# Altium schematic symbol library passive.SchLib: 106 symbols
Pins are listed as number, name and electrical type; pins without a type are passive.

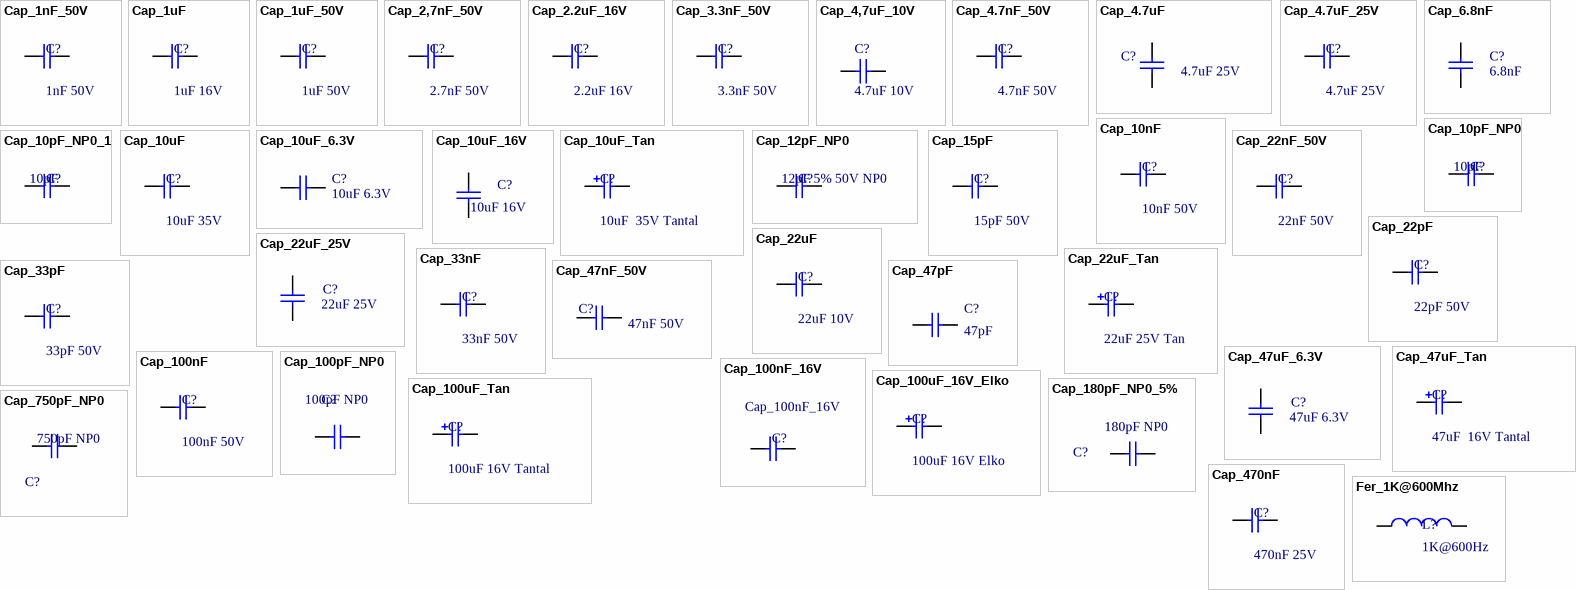
[diagram p0: symbols Cap_1nF_50V to Fer_1K@600Mhz]

## Cap_1nF_50V
designator C?, comment 1nF 50V
1nF 0603 10% 50V X7R CC0603KRX7R9BB102 (YAG) [82-02-39]; Order ID:: 82-02-39; Distributor:: Lomex; Price:: 0,42; Value: 1nF
footprint 0603_CAP
simulation model Capacitor
pins: 1, 2
2 alternate drawings of the same symbol

## Cap_1uF
designator C?, comment 1uF 16V
1uF 0603 10% 16V X7R CC0603KRX7R7BB105 (YAG) [82-06-80]; Order ID:: 82-06-80; Distributor:: Lomex; Price:: 1.57; Value: 1uF
footprint 0603_CAP
simulation model Capacitor
pins: 1, 2
2 alternate drawings of the same symbol

## Cap_1uF_50V
designator C?, comment 1uF 50V
1uF 1206 -20+80% 50V Y5V CL31F105ZBFNNNE (SAM) [82-08-43]; Order ID:: 82-08-43; Distributor:: Lomex; Price:: 4,09; Value: 1uF
footprint 1206_CAP
simulation model Capacitor
pins: 1, 2
2 alternate drawings of the same symbol

## Cap_2,7nF_50V
designator C?, comment 2.7nF 50V
2.7nF 0603 10% 50V X7R CC0603KRX7R9BB272 (YAG) ³ [82-04-63]; Value: 2,7nF; Order ID:: 82-04-63; Distributor:: Lomex; Price:: 0,46
footprint 0603_CAP
simulation model Capacitor
pins: 1, 2
2 alternate drawings of the same symbol

## Cap_2.2uF_16V
designator C?, comment 2.2uF 16V
2.2uF 0603 10% 16V X5R CL10A225KO8NNNC (SAM) [82-08-56]; Order ID:: 82-08-56; Distributor:: Lomex; Price:: 2.75; Value: 2.2uF
simulation model Capacitor
footprint 0603_CAP
pins: 1, 2
2 alternate drawings of the same symbol

## Cap_3.3nF_50V
designator C?, comment 3.3nF 50V
3.3nF 0603 10% 50V X7R CC0603KRX7R9BB332 (YAG) [82-02-42]; Order ID:: 82-02-42; Distributor:: Lomex; Price:: 0.66; Value: 3.3nF
footprint 0603_CAP
simulation model Capacitor
pins: 1, 2
2 alternate drawings of the same symbol

## Cap_4,7uF_10V
designator C?, comment 4.7uF 10V
4.7uF 0603 10% 10V X5R CC0603KRX5R6BB475 (YAG) [82-07-15]; Order ID:: 82-07-15; Distributor:: Lomex; Price:: 6.54; Value: 4.7uF
footprint 0603_CAP
simulation model Capacitor
pins: 1, 2
2 alternate drawings of the same symbol

## Cap_4.7nF_50V
designator C?, comment 4.7nF 50V
4.7nF 0603 10% 50V X7R CC0603KRX7R9BB472 (YAG) [82-02-43]; Order ID:: 82-02-43; Distributor:: Lomex; Price:: 0.75; Value: 4.7nF
footprint 0603_CAP
simulation model Capacitor
pins: 1, 2
2 alternate drawings of the same symbol

## Cap_4.7uF
designator C?, comment 4.7uF 25V
4.7uF 0805 10% 25V X5R CL21A475KAQNNNG (SAM) [82-08-53]; Distributor: Lomex; Order ID: 82-08-53; Price: 4.55; Value: 4.7uF 25V
footprint 1206
footprint 0805_CAP
footprint 0603
pins: 1, 2
2 alternate drawings of the same symbol

## Cap_4.7uF_25V
designator C?, comment 4.7uF 25V
4.7uF 1206 10% 25V X7R CC1206KKX7R8BB475 (YAG) [82-06-14]; Order ID:: 82-06-14; Distributor:: Lomex; Price:: 12.5; Value: 4.7uF
footprint 1206_CAP
simulation model Capacitor
pins: 1, 2
2 alternate drawings of the same symbol

## Cap_6.8nF
designator C?, comment 6.8nF
6.8nF 0603 10% 50V X7R CC0603KRX7R9BB682 (YAG) [82-02-44]; Distributor: Lomex; Order ID: 82-02-44; Price: 0.8; Value: 6.8nF
footprint 1206
footprint 0805
footprint 0603_CAP
pins: 1, 2
2 alternate drawings of the same symbol

## Cap_10nF
designator C?, comment 10nF 50V
10nF 0603 10% 50V X7R CC0603KRX7R9BB103 (YAG) [82-02-45]; Order ID:: 82-02-45; Distributor:: Lomex; Price:: 0.42; Value: 10nF
footprint 0603_CAP
simulation model Capacitor
pins: 1, 2
2 alternate drawings of the same symbol

## Cap_10pF_NP0
designator C?, comment 10pF
AVX - 04025A100JAT2A - CAP MLCC, 10PF, 50V, C0G/NP0, 5%, 0402; Order ID: 1740571; Distributor: Farnell; Price: 11; Value: 10pF
footprint RAD-0.3 (Capacitor; 2 Leads)
footprint VP32-3.2 (Capacitor, Ceramic, Thru-Hole, Dipped Radial; Body 5.1 x 3.2 mm (WxT) Pin Spacing 2.54 mm (typ))
footprint VP45-3.2 (Capacitor, Ceramic, Thru-Hole, Dipped Radial; Body 7.8 x 3.2 mm (WxT) Pin Spacing 5.08 mm (typ))
simulation model Capacitor
signal-integrity model Cap
footprint 0805
footprint 0402_CAP (Capacitor)
pins: 1, 2

## Cap_10pF_NP0_1
designator C?, comment 10pF
AVX - 04025A100JAT2A - CAP MLCC, 10PF, 50V, C0G/NP0, 5%, 0402; Order ID: 1740571; Distributor: Farnell; Price: 11; Value: 10pF
footprint RAD-0.3 (Capacitor; 2 Leads)
footprint VP32-3.2 (Capacitor, Ceramic, Thru-Hole, Dipped Radial; Body 5.1 x 3.2 mm (WxT) Pin Spacing 2.54 mm (typ))
footprint VP45-3.2 (Capacitor, Ceramic, Thru-Hole, Dipped Radial; Body 7.8 x 3.2 mm (WxT) Pin Spacing 5.08 mm (typ))
simulation model Capacitor
signal-integrity model Cap
footprint 0805
footprint 0402_CAP (Capacitor)
pins: 1, 2

## Cap_10uF
designator C?, comment 10uF 35V
CAP CER 10UF 35V Y5V 1206; Order ID:: 587-1352-2-ND; Distributor:: Digikey; Price:: 11.385; Value: 10uF
footprint 1206_CAP
simulation model Capacitor
pins: 1, 2
2 alternate drawings of the same symbol

## Cap_10uF_6.3V
designator C?, comment 10uF 6.3V
10uF 0805 10% 6.3V X5R CC0805KKX5R5BB106 (YAG) [82-05-94]; Distributor: Lomex; Order ID: 82-05-94; Price: 4.5; Value: 10uF
footprint 0805_CAP
simulation model Capacitor
pins: 1, 2
2 alternate drawings of the same symbol

## Cap_10uF_16V
designator C?  value 10uF 16V  (hidden comment: Cap_10uF_16V)
10uF 1206 10% 16V X7R CL31B106KOHNNNE (SAM) [82-08-01]; Distributor: Lomex; Order ID: 82-08-01; Price: 7
simulation model CAP (Capacitor)
signal-integrity model Cap
footprint 1206_CAP
pins: 1, 2

## Cap_10uF_Tan
designator C?, comment 10uF  35V Tantal
10uF ½D½ 35V 10% 293D106X9035D2TE3 (VIS) 7343-31 [92-00-49]; Distributor: Lomex; Order ID: 92-00-49; Price: 61.90; Value: 10uF
footprint 7343-31_CAP
simulation model Capacitor
pins: 1, 2
2 alternate drawings of the same symbol

## Cap_12pF_NP0
designator C?, comment 12pF 5% 50V NP0
12pF 0603 5% 50V NP0 CL10C120JB8NNNC (SAM) [82-08-41]; Distributor: Lomex; Order ID: 82-08-41; Price: 0.67; Value: 12pF
footprint RAD-0.3 (Capacitor; 2 Leads)
footprint VP32-3.2 (Capacitor, Ceramic, Thru-Hole, Dipped Radial; Body 5.1 x 3.2 mm (WxT) Pin Spacing 2.54 mm (typ))
footprint VP45-3.2 (Capacitor, Ceramic, Thru-Hole, Dipped Radial; Body 7.8 x 3.2 mm (WxT) Pin Spacing 5.08 mm (typ))
simulation model Capacitor
signal-integrity model Cap
footprint 0805
footprint 0603_CAP
pins: 1, 2

## Cap_15pF
designator C?, comment 15pF 50V
15pF 0603 5% 50V NP0 CC0603JRNPO9BN150 (YAG) [82-02-16]; Order ID:: 82-02-16; Distributor:: Lomex; Price:: 1.05; Value: 15pF
footprint 0603_CAP
simulation model Capacitor
pins: 1, 2
2 alternate drawings of the same symbol

## Cap_22nF_50V
designator C?, comment 22nF 50V
22nF 0603 10% 50V X7R CC0603KRX7R9BB223 (YAG) [82-02-47]; Order ID:: 82-02-47; Distributor:: Lomex; Price:: 0,93; Value: 22nF
footprint 0603_CAP
simulation model Capacitor
pins: 1, 2
2 alternate drawings of the same symbol

## Cap_22pF
designator C?, comment 22pF 50V
22pF 0603 5% 50V NP0 CC0603JRNPO9BN220 (YAG) [82-02-18]; Order ID:: 82-02-18; Distributor:: Lomex; Price:: 0.60; Value: 22pF
footprint 0603_CAP
simulation model Capacitor
pins: 1, 2
2 alternate drawings of the same symbol

## Cap_22uF
designator C?, comment 22uF 10V
22uF 1206 10% 10V X5R CL31A226KPHNNNE (SAM) [82-07-85]; Order ID:: 82-07-85; Distributor:: Lomex; Price:: 14.35; Value: 22uF
footprint 1206_CAP
simulation model Capacitor
pins: 1, 2
2 alternate drawings of the same symbol

## Cap_22uF_25V
designator C?, comment 22uF 25V
MURATA - GRM31CR61E226KE15L - CAP, CERAMIC, 22UF, 25V, X5R, 1206; Order ID: 1797010; Distributor: Farnell; Price: 147; Value: 22uF 25V
footprint 1206_CAP
pins: 1, 2
2 alternate drawings of the same symbol

## Cap_22uF_Tan
designator C?, comment 22uF 25V Tan
22uF ½D½ 25V 10% 293D226X9025D2TE3 (VIS) 7343-31 [92-01-43]; Distributor: Lomex; Order ID: 92-01-43; Price: 64; Value: 22uF
footprint 7343-31_CAP
simulation model Capacitor
pins: 1, 2
2 alternate drawings of the same symbol

## Cap_33nF
designator C?, comment 33nF 50V
33nF 0603 10% 50V X7R CC0603KRX7R9BB333 (YAG) [82-05-61]; Order ID:: 82-05-61; Distributor:: Lomex; Price:: 0.77; Value: 33nF
footprint 0603_CAP
simulation model Capacitor
pins: 1, 2
2 alternate drawings of the same symbol

## Cap_33pF
designator C?, comment 33pF 50V
33pF 0603 5% 50V NP0 CC0603JRNP09BN330 (YAG) [82-02-20]; Order ID:: 82-02-20; Distributor:: Lomex; Price:: 0.82; Value: 33pF
footprint 0603_CAP
simulation model Capacitor
pins: 1, 2
2 alternate drawings of the same symbol

## Cap_47nF_50V
designator C?, comment 47nF 50V
47nF 0603 10% 50V X7R CC0603KRX7R9BB473 (YAG) [82-03-87]; Distributor: Lomex; Order ID: 82-03-87; Price: 0.85; Value: 47nF
footprint 1206
footprint 0805
footprint 0603_CAP
simulation model Capacitor
pins: 1, 2
2 alternate drawings of the same symbol

## Cap_47pF
designator C?, comment 47pF
47pF 0603 5% 50V NP0 CC0603JRNPO9BN470 (YAG) [82-02-22]; Distributor: Lomex; Order ID: 82-02-22; Price: 0.6; Value: 47pF
footprint 1206
footprint 0805
footprint 0603_CAP
simulation model Capacitor
pins: 1, 2
2 alternate drawings of the same symbol

## Cap_47uF_6.3V
designator C?, comment 47uF 6.3V
47uF 1206 20% 6.3V X5R CL31A476MQHNNE (SAM) [82-08-04]; Distributor: Lomex; Order ID: 82-08-04; Price: 31; Value: 47uF
footprint 1206_CAP
pins: 1, 2
2 alternate drawings of the same symbol

## Cap_47uF_Tan
designator C?, comment 47uF  16V Tantal
47uF ½D½ 16V 10% 293D476X9016D2TE3 (VIS) 7343-31 [92-00-56]; Distributor: Lomex; Order ID: 92-00-56; Price: 50,90; Value: 47uF
footprint 7343-31_CAP
simulation model Capacitor
pins: 1, 2
2 alternate drawings of the same symbol

## Cap_100nF
designator C?, comment 100nF 50V
100nF 0603 10% 50V X7R CC0603KRX7R9BB104 (YAG) [82-06-23]; Order ID:: 82-06-23; Distributor:: Lomex; Price:: 0.37; Value: 100nF
footprint 0603_CAP
simulation model Capacitor
pins: 1, 2
2 alternate drawings of the same symbol

## Cap_100nF_16V
designator C?
100nF 0603 10% 16V X7R CC0603KPX7R7BB104 (YAG) [82-04-85]; Distributor: Lomex; Order ID: 82-04-85; Price: 0.37; Value: 100nF
footprint RAD-0.3 (Capacitor; 2 Leads)
footprint VP32-3.2 (Capacitor, Ceramic, Thru-Hole, Dipped Radial; Body 5.1 x 3.2 mm (WxT) Pin Spacing 2.54 mm (typ))
footprint VP45-3.2 (Capacitor, Ceramic, Thru-Hole, Dipped Radial; Body 7.8 x 3.2 mm (WxT) Pin Spacing 5.08 mm (typ))
simulation model Capacitor
signal-integrity model Cap
footprint 0805
footprint 0603_CAP
pins: 1, 2

## Cap_100pF_NP0
designator C?, comment 100pF NP0
100pF 0603 5% 50V NP0 CC0603JRNPO9BN101 (YAG) [82-02-26]; Distributor: Lomex; Order ID: 82-02-26; Price: 0.52; Value: 100pF
footprint RAD-0.3 (Capacitor; 2 Leads)
footprint VP32-3.2 (Capacitor, Ceramic, Thru-Hole, Dipped Radial; Body 5.1 x 3.2 mm (WxT) Pin Spacing 2.54 mm (typ))
footprint VP45-3.2 (Capacitor, Ceramic, Thru-Hole, Dipped Radial; Body 7.8 x 3.2 mm (WxT) Pin Spacing 5.08 mm (typ))
simulation model Capacitor
signal-integrity model Cap
footprint 0805
footprint 0603_CAP
pins: 1, 2

## Cap_100uF_16V_Elko
designator C?, comment 100uF 16V Elko
100uF 16V 6x5mm 20% 105° VSV107M016S0ANE010 (LUX) SMD [91-00-20]; Distributor: Lomex; Order ID: 91-00-20; Price: 11.36; Value: 100uF
footprint ELKO SMD_E (8x6.3)
simulation model Capacitor
pins: 1, 2
2 alternate drawings of the same symbol

## Cap_100uF_Tan
designator C?, comment 100uF 16V Tantal
100uF ½D½ 16V 10% TAJD107K016SNJ (AVX) 7343 [92-01-42]; Distributor: Lomex; Order ID: 92-01-42; Price: 60; Value: 100uF
footprint 7343-31_CAP
simulation model Capacitor
pins: 1, 2
2 alternate drawings of the same symbol

## Cap_180pF_NP0_5%
designator C?, comment 180pF NP0
180pF 0603 5% 50V NP0 CC0603JRNP09BN181 (YAG) [82-02-29]; Distributor: Lomex; Order ID: 82-02-29; Price: 1.05; Value: 180pF
footprint RAD-0.3 (Capacitor; 2 Leads)
footprint VP32-3.2 (Capacitor, Ceramic, Thru-Hole, Dipped Radial; Body 5.1 x 3.2 mm (WxT) Pin Spacing 2.54 mm (typ))
footprint VP45-3.2 (Capacitor, Ceramic, Thru-Hole, Dipped Radial; Body 7.8 x 3.2 mm (WxT) Pin Spacing 5.08 mm (typ))
simulation model Capacitor
signal-integrity model Cap
footprint 0805
footprint 0603_CAP
pins: 1, 2

## Cap_470nF
designator C?, comment 470nF 25V
470nF 0603 10% 25V X5R 0603X474K250CT (WAL) [82-06-82]; Order ID:: 82-06_82; Distributor:: Lomex; Price:: 1.66; Value: 470nF
footprint 0603_CAP
simulation model Capacitor
pins: 1, 2
2 alternate drawings of the same symbol

## Cap_750pF_NP0
designator C?, comment 750pF NP0
750pF 0603 5% 50V C0G; Order ID: 490-1448-2-ND; Distributor: Digikey; Price: 3.80; Value: 750pF
footprint RAD-0.3 (Capacitor; 2 Leads)
footprint VP32-3.2 (Capacitor, Ceramic, Thru-Hole, Dipped Radial; Body 5.1 x 3.2 mm (WxT) Pin Spacing 2.54 mm (typ))
footprint VP45-3.2 (Capacitor, Ceramic, Thru-Hole, Dipped Radial; Body 7.8 x 3.2 mm (WxT) Pin Spacing 5.08 mm (typ))
simulation model Capacitor
signal-integrity model Cap
footprint 0805
footprint 0603_CAP
pins: 1, 2

## Fer_1K@600Mhz
designator L?, comment 1K@600Hz
WURTH ELEKTRONIK - 742863147 - FERRITE BEAD, 0.32OHM, 500MA, 0603; Order ID: 1748576; Value: 1K; Distributor: Farnell; Price: 100
footprint 0603_Ferrit_Bead (Ferrit Bead)
pins: 1, 2
2 alternate drawings of the same symbol

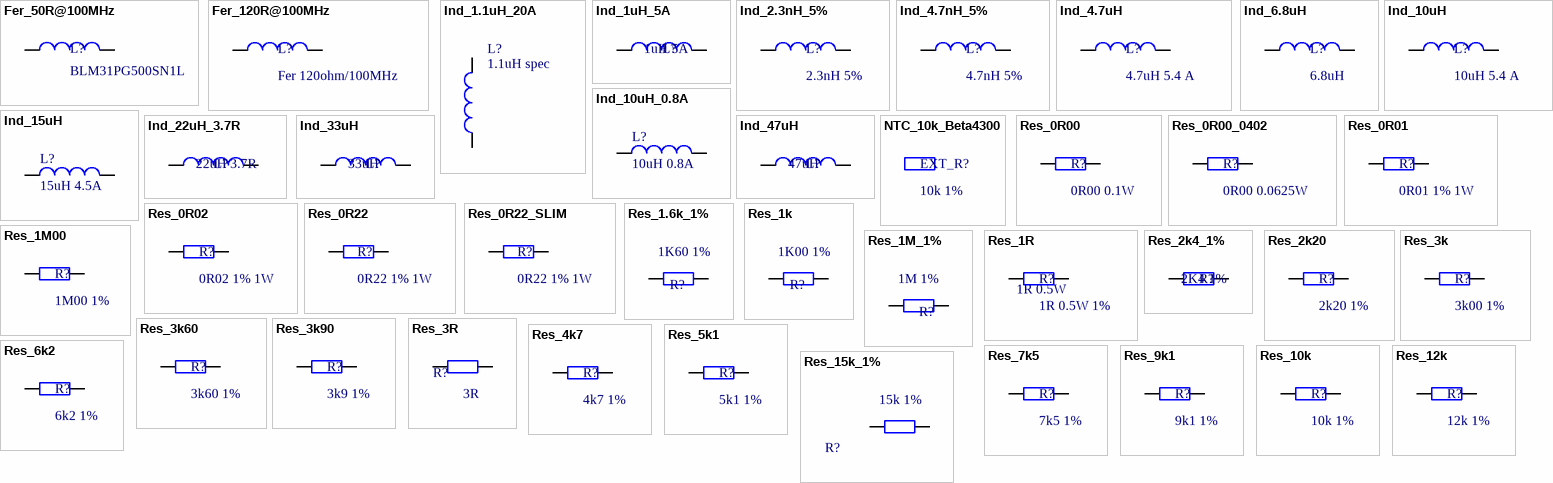
[diagram p1: symbols Fer_50R@100MHz to Res_15k_1%]

## Fer_50R@100MHz
designator L?, comment BLM31PG500SN1L
FERRITE CHIP 50 OHM 3500MA 1206; Order ID: 490-1055-1-ND; Distributor: Digikey; Price: 40; Value: BLM31PG500SN1L
footprint 1206_IND
pins: 1, 2
2 alternate drawings of the same symbol

## Fer_120R@100MHz
designator L?, comment Fer 120ohm/100MHz
120ohm/100MHz 0805 25% 0.04R CB05YTYH121 (VIK) HIGH CURRENT MULTILAYER CHIP FERRITE BEAD Idc=3A [93-03-10]; Distributor: Lomex; Order ID: 93-03-10; Price: 1.26; Value: Fer 120ohm/100MHz
footprint 0805_FER (Ferrit 0805 case.)
pins: 1, 2
2 alternate drawings of the same symbol

## Ind_1.1uH_20A
designator L?, comment 1.1uH spec
INDUCTOR POWER 1.1UH 20A SMD; Order ID: 495-1860-1-ND; Distributor: Digikey; Price: 650; Value: 1.1uH
footprint EPCOS_IND_B82559A0112A013
pins: 1, 2
2 alternate drawings of the same symbol

## Ind_1uH_5A
designator L?, comment 1uH 5A
1uHy 5.8x4.9mm 20% 0.01R PCD0504MT1R0 (VIK) Idc=5A POW. [93-02-76]; Distributor: Lomex; Order ID: 93-02-76; Price: 26; Value: 1uH
simulation model INDUCTOR (Inductor)
signal-integrity model Inductor
footprint PCD0504 (Power inductor.)
pins: 1, 2

## Ind_2.3nH_5%
designator L?, comment 2.3nH 5%
0.023uHy 0402 5% 0.3R 0402CS-23NXJLW (CCR) Idc=400mA SRF>2,72GHz ³ [93-02-30]; Distributor: Lomex; Order ID: 93-02-30; Price: 3.4; Value: 2.3nH
footprint 0402_Res (Resistor)
simulation model Inductor
pins: 1, 2
2 alternate drawings of the same symbol

## Ind_4.7nH_5%
designator L?, comment 4.7nH 5%
0603CS-4N7XGLW Chip Inductors 4.7nH at 2 Chip Inductors 4.7nH at 250 MHz +/-5%; Order ID: COIL107; Distributor: Chipcad; Price: 16; Value: 4.7nH
footprint 0603_Res (Resistor)
simulation model Inductor
pins: 1, 2
2 alternate drawings of the same symbol

## Ind_4.7uH
designator L?, comment 4.7uH 5.4 A
4.7uHy 13x9.4mm 20% 0.018R PD3316MT4R7 (VIK) Idc=5.4A POW. [93-02-89]; Distributor: Lomex; Order ID: 93-02-89; Price: 39,78; Value: 4.7uH
footprint PD3316
simulation model Inductor
pins: 1, 2
2 alternate drawings of the same symbol

## Ind_6.8uH
designator L?, comment 6.8uH
BOURNS - SRN3015-6R8M - INDUCTOR, POWER, 6.8UH, SEMI SHIELDED; Order ID: 2061633; Distributor: Farnell; Price: 48.25; Value: 6.8uH
simulation model Inductor
signal-integrity model Inductor
footprint SRN3015 (Inductor case. 3x3x1.5mm)
pins: 1, 2

## Ind_10uH
designator L?, comment 10uH 5.4 A
10uHy 12.7x12.7 20% 0.021R SS1208100MFB (ABC) Idc=5.4A POW. SHIELDED (SRR1208) [93-00-43]; Distributor: Lomex; Order ID: 93-00-43; Price: 87; Value: 10uH
footprint SRR1208 (Inductor case. 12.7x12.7x8mm)
footprint IND8.7X12
footprint EPCOS_IND
footprint 1210
simulation model Inductor
pins: 1, 2
2 alternate drawings of the same symbol

## Ind_10uH_0.8A
designator L?, comment 10uH 0.8A
10uHy 3x2.5mm 20% 0.25R SDR0302-100ML (BOU) RoHS Irms=0.8A POW.; Distributor: Lomex; Order ID: 93-02-04; Price: 56.40; Value: 10uH
simulation model INDUCTOR (Inductor)
signal-integrity model Inductor
footprint BOURNS 0302 (Bourns 0302 inductor footprint)
pins: 1, 2

## Ind_15uH
designator L?, comment 15uH 4.5A
15uHy 12.7x12.7 20% 0.036R SS1208150MFB (ABC) Irms=4.5A POW. SHIELDED (SRR1208) [93-01-15]; Distributor: Lomex; Order ID: 93-01-15; Price: 86; Value: 15uH
footprint SRR1208 (Inductor case. 12.7x12.7x8mm)
footprint IND8.7X12
footprint EPCOS_IND
footprint 1210
simulation model Inductor
pins: 1, 2
2 alternate drawings of the same symbol

## Ind_22uH_3.7R
designator L?, comment 22uH 3.7R
22uHy 1210 5% 3.7R LFC32TTE220J (KOA) Idc=110mA SRF>25MHz [93-00-08]; Distributor: Lomex; Order ID: 93-00-08; Price: 19.80; Value: 22uH
footprint 0402-A (Chip Inductor; Body 1 x 0.5 mm (LxW typ))
footprint L0603 (Chip Inductor; Body 1.6 x 0.8 mm (LxW typ))
footprint 2012_Chip (2012 Chip; Chip Inductor; Body 2.0 x 1.2 mm (LxW typ))
footprint 2029 (Chip Inductor; Body 2 x 1.2 mm (LxW typ))
footprint 3261 (3216 Chip; Chip Inductor; Body 3.2 x 1.6 mm (LxW typ))
footprint 4564_Chip (4564 Chip; Chip Inductor; Body 4.5 x 6.4 mm (LxW typ))
simulation model Inductor
signal-integrity model Inductor
footprint 1210_IND (1210 inductor case.)
pins: 1, 2

## Ind_33uH
designator L?, comment 33uH
33uHy 5.8x4.9mm 10% 0.23R PCD0504KT330 (VIK) Idc=0.88A POW. [93-02-81]; Distributor: Lomex; Order ID: 93-02-81; Price: 19.57; Value: 33uH
simulation model INDUCTOR (Inductor)
signal-integrity model Inductor
footprint PCD0504 (Power inductor.)
pins: 1, 2

## Ind_47uH
designator L?, comment 47uH
47uHy 5.8x4.9mm 10% 0.37R PCD0504KT470 (VIK) Idc=0.72A POW. [93-02-82]; Distributor: Lomex; Order ID: 93-02-82; Price: 16.23; Value: 47uH
simulation model INDUCTOR (Inductor)
signal-integrity model Inductor
footprint PCD0504 (Power inductor.)
pins: 1, 2

## NTC_10k_Beta4300
designator EXT_R?, comment 10k 1%
NTC 10K 5% B57164K0103J (EPC) RAD D=5.5mm RM5.0 [60-00-88]; Distributor: Lomex; Order ID: 60-00-88; Price: 49.6; Value: 10k
simulation model Resistor
2 alternate drawings of the same symbol

## Res_0R00
designator R?, comment 0R00 0.1W
0R00 0603 CR-03JL7----0R 0.1W (VIK) 1A 5 [81-10-01]; Distributor: Lomex; Order ID: 81-10-01; Price: 0.18; Value: 0R00
footprint 0603_Res (Resistor)
simulation model Resistor
pins: 1, 2
2 alternate drawings of the same symbol

## Res_0R00_0402
designator R?, comment 0R00 0.0625W
0R00 0402 RC0402JR-070RL 0.0625W (YAG) [81-20-69]; Distributor: Lomex; Order ID: 81-20-69; Price: 0.23; Value: 0R00
footprint 0402_Res (Resistor)
simulation model Resistor
pins: 1, 2
2 alternate drawings of the same symbol

## Res_0R01
designator R?, comment 0R01 1% 1W
PANASONIC - ERJ8CWFR010V - RESISTOR, THICK FILM, 0.01OHM; Order ID: 2145283; Distributor: Farnell; Price: 58,05; Value: 0R01
footprint 3216[1206]_RES (Chip Resistor; Body 3.2 x 1.6 mm (LxW typ))
simulation model Resistor
pins: 1, 2
2 alternate drawings of the same symbol

## Res_0R02
designator R?, comment 0R02 1% 1W
PANASONIC - ERJ8CWFR020V - RESISTOR, THICK FILM, 0.02OHM; Order ID: 2145291; Distributor: Farnell; Price: 58,05; Value: 0R02
footprint 3216[1206]_RES (Chip Resistor; Body 3.2 x 1.6 mm (LxW typ))
simulation model Resistor
pins: 1, 2
2 alternate drawings of the same symbol

## Res_0R22
designator R?, comment 0R22 1% 1W
0R22 2512 1% RS-12FL4--0R22 1W (VIK) [80-05-83]; Distributor: Lomex; Order ID: 80-05-83; Price: 10; Value: 0R22
footprint 6332[2512]_RES (Chip Resistor; Body 6.3 x 3.2 mm (LxW typ))
simulation model Resistor
pins: 1, 2
2 alternate drawings of the same symbol

## Res_0R22_SLIM
designator R?, comment 0R22 1% 1W
0R22 2512 1% RS-12FL4--0R22 1W (VIK) [80-05-83]; Distributor: Lomex; Order ID: 80-05-83; Price: 10; Value: 0R22
footprint 6332[2512]_RES_SLIM (Chip Resistor; Body 6.3 x 3.2 mm (LxW typ))
simulation model Resistor
pins: 1, 2
2 alternate drawings of the same symbol

## Res_1.6k_1%
designator R?, comment 1K60 1%
1K60 0603 1% CR-03FL7---1K6 0.1W (VIK) [80-14-46]; Order ID: 80-14-46; Distributor: Lomex; Price: 0.24; Value: 1K60
footprint AXIAL-0.4 (Resistor; 2 Leads)
simulation model Resistor
signal-integrity model Res
footprint 0603_Res (Resistor)
pins: 1, 2

## Res_1k
designator R?, comment 1K00 1%
1K00 0603 1% RC0603FR-13 1K00 0.1W (YAG) [80-15-07]; Order ID: 80-15-07; Distributor: Lomex; Price: 0.22; Value: 1K00
footprint AXIAL-0.4 (Resistor; 2 Leads)
footprint 0603_Res (Resistor)
simulation model Resistor
pins: 1, 2

## Res_1M00
designator R?, comment 1M00 1%
1M00 0603 1% CR-03FL7----1M 0.1W (VIK) [80-11-86]; Distributor: Lomex; Order ID: 80-11-86; Price: 0.24; Value: 1M00
footprint 0603_Res (Resistor)
simulation model Resistor
pins: 1, 2
2 alternate drawings of the same symbol

## Res_1M_1%
designator R?, comment 1M 1%
1M00 0603 1% CR-03FL7----1M 0.1W (VIK) [80-11-86]; Order ID: 80-11-86; Distributor: Lomex; Price: 0.24; Value: 1M 1%
footprint 0603_Res (Resistor)
simulation model Resistor
pins: 1, 2

## Res_1R
designator R?, comment 1R 0.5W 1%  value 1R 0.5W
PANASONIC  ERJ14BQF1R0U  RESISTOR, 1210, 0.5W, 1%, 1R; Order ID: 1717932; Distributor: Farnell; Price: 115
footprint 1210_IND (1210 inductor case.)
pins: 1, 2
2 alternate drawings of the same symbol

## Res_2k4_1%
designator R?, comment 2K4 1%
2K40 0603 1% RC0603FR-07 2K40 0.1W (YAG) [80-04-43]; Order ID: 80-04-43; Distributor: Lomex; Price: 0.33; Value: 2K4
footprint AXIAL-0.4 (Resistor; 2 Leads)
simulation model Resistor
signal-integrity model Res
footprint 0603_Res (Resistor)
pins: 1, 2

## Res_2k20
designator R?, comment 2k20 1%
2K20 0603 1% CR-03FL7---2K2 0.1W (VIK) [80-11-80]; Distributor: Lomex; Order ID: 80-11-80; Price: 0.24; Value: 2k20
footprint 0603_Res (Resistor)
simulation model Resistor
pins: 1, 2
2 alternate drawings of the same symbol

## Res_3k
designator R?, comment 3k00 1%
3K00 0603 1% CR-03FL7----3K 0.1W (VIK) [80-11-77]; Distributor: Lomex; Order ID: 80-11-77; Price: 0.24; Value: 3k00
footprint 0603_Res (Resistor)
simulation model Resistor
pins: 1, 2
2 alternate drawings of the same symbol

## Res_3k60
designator R?, comment 3k60 1%
3K60 0603 1% CR-03FL7---3K6 0.1W (VIK) [80-14-47]; Distributor: Lomex; Order ID: 80-14-47; Price: 0.24; Value: 3k60
footprint 0603_Res (Resistor)
simulation model Resistor
pins: 1, 2
2 alternate drawings of the same symbol

## Res_3k90
designator R?, comment 3k9 1%
3K90 0603 1% CR-03FL7---3K9 0.1W (VIK) [80-11-66]; Distributor: Lomex; Order ID: 80-11-66; Price: 0.24; Value: 3k9
footprint 0603_Res (Resistor)
simulation model Resistor
pins: 1, 2
2 alternate drawings of the same symbol

## Res_3R
designator R?, comment 3R
3R00 0603 5% CR-03JL7----3R 0.1W (VIK) [81-20-36]; Distributor: Lomex; ORDER ID: 81-20-36; Price: 0.18; Value: 3R
footprint 1206
footprint 0805
footprint 0603_Res (Resistor)
footprint 2512
pins: 1, 2
2 alternate drawings of the same symbol

## Res_4k7
designator R?, comment 4k7 1%
4K70 0603 1% CR-03FL7---4K7 0.1W (VIK) [80-11-85]; Distributor: Lomex; Order ID: 80-11-85; Price: 0.24; Value: 4k7
footprint 0603_Res (Resistor)
simulation model Resistor
pins: 1, 2
2 alternate drawings of the same symbol

## Res_5k1
designator R?, comment 5k1 1%
5K10 0603 1% CR-03FL7---5K1 0.1W (VIK) [80-11-67]; Distributor: Lomex; Order ID: 80-11-67; Price: 0.24; Value: 5k1
footprint 0603_Res (Resistor)
simulation model Resistor
pins: 1, 2
2 alternate drawings of the same symbol

## Res_6k2
designator R?, comment 6k2 1%
6K20 0603 1% CR-03FL7---6K2 0.1W (VIK) [80-13-52]; Distributor: Lomex; Order ID: 80-13-52; Price: 0.24; Value: 6k2
footprint 0603_Res (Resistor)
simulation model Resistor
pins: 1, 2
2 alternate drawings of the same symbol

## Res_7k5
designator R?, comment 7k5 1%
7K50 0603 1% CR-03FL7---7K5 0.1W (VIK) [80-13-64]; Distributor: Lomex; Order ID: 80-13-64; Price: 0.24; Value: 7k5
footprint 0603_Res (Resistor)
simulation model Resistor
pins: 1, 2
2 alternate drawings of the same symbol

## Res_9k1
designator R?, comment 9k1 1%
9K10 0603 1% CR-03FL7---9K1 0.1W (VIK) [80-14-49]; Distributor: Lomex; Order ID: 80-14-49; Price: 0.24; Value: 9k1
footprint 0603_Res (Resistor)
simulation model Resistor
pins: 1, 2
2 alternate drawings of the same symbol

## Res_10k
designator R?, comment 10k 1%
10K0 0603 1% CR-03FL7---10K 0.1W (VIK) [80-11-68]; Distributor: Lomex; Order ID: 80-11-68; Price: 0.24; Value: 10k
footprint 0603_Res (Resistor)
simulation model Resistor
pins: 1, 2
2 alternate drawings of the same symbol

## Res_12k
designator R?, comment 12k 1%
12K0 0603 1% CR-03FL7---12K 0.1W (VIK) [80-11-69]; Distributor: Lomex; Order ID: 80-11-69; Price: 0.24; Value: 12k
footprint 0603_Res (Resistor)
simulation model Resistor
pins: 1, 2
2 alternate drawings of the same symbol

## Res_15k_1%
designator R?, comment 15k 1%
15K0 0603 1% CR-03FL7---15K 0.1W (VIK) [80-12-06]; Order ID: 80-12-06; Distributor: Lomex; Price: 0.24; Value: 15k
footprint AXIAL-0.4 (Resistor; 2 Leads)
simulation model Resistor
signal-integrity model Res
footprint 0603_Res (Resistor)
pins: 1, 2

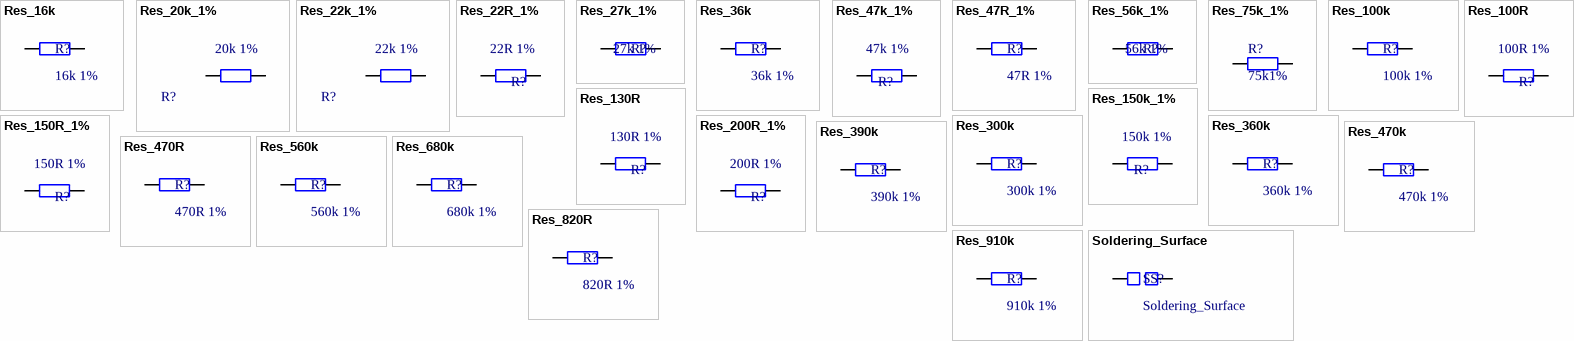
[diagram p2: symbols Res_16k to Soldering_Surface]

## Res_16k
designator R?, comment 16k 1%
16K0 0603 1% CR-03FL7---16K 0.1W (VIK) [80-14-51]; Distributor: Lomex; Order ID: 80-14-51; Price: 0.24; Value: 16k
footprint 0603_Res (Resistor)
simulation model Resistor
pins: 1, 2
2 alternate drawings of the same symbol

## Res_20k_1%
designator R?, comment 20k 1%
20K0 0603 1% CR-03FL7---20K 0.1W (VIK) [80-14-52]; Order ID: 80-14-52; Distributor: Lomex; Price: 0.24; Value: 20k
footprint AXIAL-0.4 (Resistor; 2 Leads)
simulation model Resistor
signal-integrity model Res
footprint 0603_Res (Resistor)
pins: 1, 2

## Res_22k_1%
designator R?, comment 22k 1%
22K0 0603 1% CR-03FL7---22K 0.1W (VIK) [80-11-71]; Order ID: 80-11-71; Distributor: Lomex; Price: 0.24; Value: 22k
footprint AXIAL-0.4 (Resistor; 2 Leads)
simulation model Resistor
signal-integrity model Res
footprint 0603_Res (Resistor)
pins: 1, 2

## Res_22R_1%
designator R?, comment 22R 1%
22R0 0603 1% CR-03FL7---22R 0.1W (VIK) [80-13-63]; Order ID: 80-13-63; Distributor: Lomex; Price: 0.24; Value: 22R
footprint 0603_Res (Resistor)
simulation model Resistor
pins: 1, 2

## Res_27k_1%
designator R?, comment 27k 1%
27K0 0603 1% CR-03FL7---27K 0.1W (VIK) [80-13-90]; Order ID: 80-13-90; Distributor: Lomex; Price: 0.24; Value: 27k
footprint AXIAL-0.4 (Resistor; 2 Leads)
simulation model Resistor
signal-integrity model Res
footprint 0603_Res (Resistor)
pins: 1, 2

## Res_36k
designator R?, comment 36k 1%
36K0 0603 1% CR-03FL7---36K 0.1W (VIK); Distributor: Lomex; Order ID: 80-13-29; Price: 0.24; Value: 36k
footprint 0603_Res (Resistor)
simulation model Resistor
pins: 1, 2
2 alternate drawings of the same symbol

## Res_47k_1%
designator R?, comment 47k 1%
47K0 0603 1% RC0603FR-13 47K0 0.1W (YAG) [80-15-18]; Order ID: 80-15-18; Distributor: Lomex; Price: 0.18; Value: 47k
footprint AXIAL-0.4 (Resistor; 2 Leads)
simulation model Resistor
signal-integrity model Res
footprint 0603_Res (Resistor)
pins: 1, 2

## Res_47R_1%
designator R?, comment 47R 1%
47R0 0603 1% CR-03FL7---47R 0.1W (VIK) [80-11-49]; Distributor: Lomex; Order ID: 80-11-49; Price: 0.24; Value: 47R
footprint 0603_Res (Resistor)
simulation model Resistor
pins: 1, 2
2 alternate drawings of the same symbol

## Res_56k_1%
designator R?, comment 56k 1%
56K0 0603 1% CR-03FL7---56K 0.1W (VIK) [80-14-55]; Order ID: 80-14-55; Distributor: Lomex; Price: 0.24; Value: 56k
footprint AXIAL-0.4 (Resistor; 2 Leads)
simulation model Resistor
signal-integrity model Res
footprint 0603_Res (Resistor)
pins: 1, 2

## Res_75k_1%
designator R?, comment 75k1%
75K0 0603 1% CR-03FL7---75K 0.1W (VIK) [80-13-02]; Distributor: Lomex; Order ID: 80-13-02; Price: 0.24; Value: 75k 1%
footprint 0603_Res (Resistor)
simulation model Resistor
pins: 1, 2
2 alternate drawings of the same symbol

## Res_100k
designator R?, comment 100k 1%
100K 0603 1% CR-03FL7--100K 0.1W (VIK) [80-11-40]; Distributor: Lomex; Order ID: 80-11-40; Price: 0.24; Value: 100k
footprint 0603_Res (Resistor)
simulation model Resistor
pins: 1, 2
2 alternate drawings of the same symbol

## Res_100R
designator R?, comment 100R 1%
100R 0603 1% CR-03FL7--100R 0.1W (VIK) [80-11-53]; Order ID: 80-11-53; Distributor: Lomex; Price: 0.24; Value: 100R
footprint 0603_Res (Resistor)
simulation model Resistor
pins: 1, 2

## Res_130R
designator R?, comment 130R 1%
130R 0603 1% CR-03FL7--130R 0.1W (VIK) [80-14-34]; Order ID: 80-14-34; Distributor: Lomex; Price: 0.24; Value: 130R
footprint 0603_Res (Resistor)
simulation model Resistor
pins: 1, 2

## Res_150k_1%
designator R?, comment 150k 1%
150K 0603 1% CR-03FL7--150K 0.1W (VIK) [80-13-95]; Order ID: 80-13-95; Distributor: Lomex; Price: 0.24; Value: 150k
footprint AXIAL-0.4 (Resistor; 2 Leads)
simulation model Resistor
signal-integrity model Res
footprint 0603_Res (Resistor)
pins: 1, 2

## Res_150R_1%
designator R?, comment 150R 1%
150R 0603 1% CR-03FL7--150R 0.1W (VIK) [80-13-53]; Order ID: 80-14-34; Distributor: Lomex; Price: 0.24; Value: 150R
footprint 0603_Res (Resistor)
simulation model Resistor
pins: 1, 2

## Res_200R_1%
designator R?, comment 200R 1%
200R 0603 1% CR-03FL7--200R 0.1W (VIK) [80-14-37]; Order ID: 80-14-37; Distributor: Lomex; Price: 0.24; Value: 200R
footprint 0603_Res (Resistor)
simulation model Resistor
pins: 1, 2

## Res_300k
designator R?, comment 300k 1%
300K 0603 1% CR-03FL7--300K 0.1W (VIK) [80-13-36]; Distributor: Lomex; Order ID: 80-13-36; Price: 0.24; Value: 300k
footprint 0603_Res (Resistor)
simulation model Resistor
pins: 1, 2
2 alternate drawings of the same symbol

## Res_360k
designator R?, comment 360k 1%
360K 0603 1% RC0603FR-07 360K 0.1W (YAG) [80-04-69]; Distributor: Lomex; Order ID: 80-04-69; Price: 0.24; Value: 360k
footprint 0603_Res (Resistor)
simulation model Resistor
pins: 1, 2
2 alternate drawings of the same symbol

## Res_390k
designator R?, comment 390k 1%
390K 0603 1% CR-03FL7--390K 0.1W (VIK) [80-13-26]; Distributor: Lomex; Order ID: 80-13-26; Price: 0.24; Value: 390k
footprint 0603_Res (Resistor)
simulation model Resistor
pins: 1, 2
2 alternate drawings of the same symbol

## Res_470k
designator R?, comment 470k 1%
470K 0603 1% CR-03FL7--470K 0.1W (VIK) [80-11-76]; Distributor: Lomex; Order ID: 80-11-76; Price: 0.24; Value: 470k
footprint 0603_Res (Resistor)
simulation model Resistor
pins: 1, 2
2 alternate drawings of the same symbol

## Res_470R
designator R?, comment 470R 1%
470R 0603 1% CR-03FL7--470R 0.1W (VIK) [80-11-88]; Distributor: Lomex; Order ID: 80-11-88; Price: 0.24; Value: 470R
footprint 0603_Res (Resistor)
simulation model Resistor
pins: 1, 2
2 alternate drawings of the same symbol

## Res_560k
designator R?, comment 560k 1%
560K 0603 1% CR-03FL7--560K 0.1W (VIK) [80-14-65]; Distributor: Lomex; Order ID: 80-14-65; Price: 0.24; Value: 560k
footprint 0603_Res (Resistor)
simulation model Resistor
pins: 1, 2
2 alternate drawings of the same symbol

## Res_680k
designator R?, comment 680k 1%
680K 0603 1% CR-03FL7--680K 0.1W (VIK) [80-14-67]; Distributor: Lomex; Order ID: 80-14-67; Price: 0.24; Value: 680k
footprint 0603_Res (Resistor)
simulation model Resistor
pins: 1, 2
2 alternate drawings of the same symbol

## Res_820R
designator R?, comment 820R 1%
820R 0603 1% CR-03FL7--820R 0.1W (VIK) [80-14-43]; Distributor: Lomex; Order ID: 80-14-43; Price: 0.24; Value: 820R
footprint 0603_Res (Resistor)
simulation model Resistor
pins: 1, 2
2 alternate drawings of the same symbol

## Res_910k
designator R?, comment 910k 1%
910K 0603 1% CR-03FL7--910K 0.1W (VIK) [80-14-70]; Distributor: Lomex; Order ID: 80-14-70; Price: 0.24; Value: 910k
footprint 0603_Res (Resistor)
simulation model Resistor
pins: 1, 2
2 alternate drawings of the same symbol

## Soldering_Surface
designator SS?
Soldering surface, pins can initiali separeted later shorted.; Distributor: *; Order ID: *; Price: *; Value: *
footprint Soldering_surface (Soldering surface.)
simulation model Resistor
pins: 1, 2
2 alternate drawings of the same symbol